# EAGLE library part MUN53 (library mun)
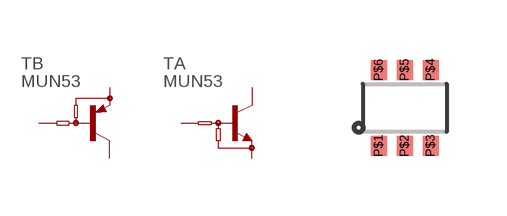
[diagram p0: symbol with the pads of SOT-363; footprint SOT-363]

Designator prefix T; gates B=PNP-DRIVER A=NPN-DRIVER

## MUN53  [SOT-363]
P$1  A:E  pas
P$2  A:B  pas
P$3  B:C  pas
P$4  B:E  pas
P$5  B:B  pas
P$6  A:C  pas

## Footprint SOT-363 (pad centres in mm)
smd 0.4 x 0.5: P$1 -0.65,-0.95; P$2 0,-0.95; P$3 0.65,-0.95; P$4 0.65,0.95; P$5 0,0.95; P$6 -0.65,0.95